# EAGLE library part TL074ID (library CASE-OP_AMP)
TL074ID Quad Low-Noise JFET-Input General-Purpose Operational Amplifier Description: TL074ID Quad Low-Noise JFET-Input General-Purpose Operational Amplifier in SOIC-14 package Links: Datasheet <http://www.ti.com/lit/ds/symlink/tl072.pdf>
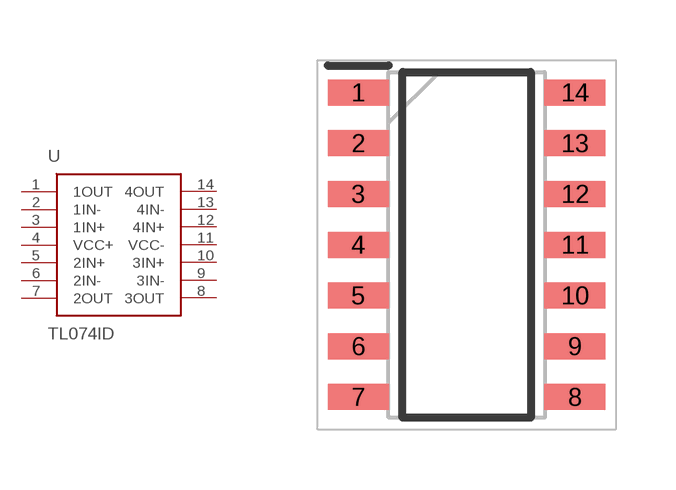
[diagram p0: symbol with the pads of SOIC127P600X175-14N; footprint SOIC127P600X175-14N]

Designator prefix U

## TL074ID (DESCRIPTION: Quad Low-Noise JFET-Input General-Purpose Operational Amplifier; HEIGHT: 1.75mm; MANUFACTURER_NAME: Texas Instruments; MANUFACTURER_PART_NUMBER: TL074ID; MOUSER_PART_NUMBER: 595-TL074ID; MOUSER_PRICE-STOCK: https://www.mouser.com/Search/Refine.aspx?Keyword=595-TL074ID)  [SOIC127P600X175-14N]
1  1OUT  out
2  1IN-  in
3  1IN+  in
4  VCC+  pwr
5  2IN+  in
6  2IN-  in
7  2OUT  out
8  3OUT  out
9  3IN-  in
10  3IN+  in
11  VCC-  pwr
12  4IN+  in
13  4IN-  in
14  4OUT  out

## Footprint SOIC127P600X175-14N (pad centres in mm)
D(R-DPSO-G14)
smd 1.525 x 0.65: 1 -2.712,3.81; 2 -2.712,2.54; 3 -2.712,1.27; 4 -2.712,0; 5 -2.712,-1.27; 6 -2.712,-2.54; 7 -2.712,-3.81; 8 2.712,-3.81; 9 2.712,-2.54; 10 2.712,-1.27; 11 2.712,0; 12 2.712,1.27; 13 2.712,2.54; 14 2.712,3.81